# Altium schematic symbol library LTC1560-1CS8PBF.SchLib: 2 symbols
Pins are listed as number, name and electrical type; pins without a type are passive.

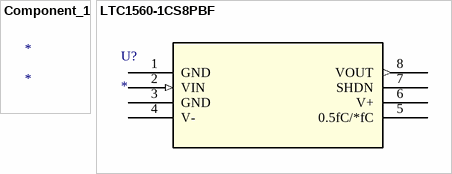
[diagram p0: symbols Component_1 to LTC1560-1CS8PBF]

## Component_1
designator *

## LTC1560-1CS8PBF
designator U?
No Description Available; Mfr_Name: Analog Devices Inc; RefDes: RefDes; Type: Type
footprint SO-8_S_LIT
footprint SO-8_S_LIT-M
footprint SO-8_S_LIT-L
pins: 1 GND (power), 2 VIN (in), 3 GND (power), 4 V- (power), 5 0.5fC/*fC, 6 V+ (power), 7 SHDN, 8 VOUT (out)